# Altium schematic symbol library DC motors drivers.SchLib: 1 symbol
Pins are listed as number, name and electrical type; pins without a type are passive.

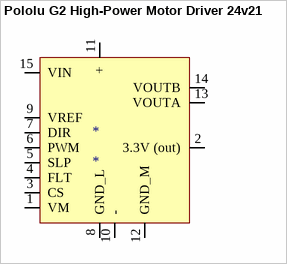
[diagram p0: symbol Pololu G2 High-Power Motor Driver 24v21]

## Pololu G2 High-Power Motor Driver 24v21
designator *
footprint Pololu G2 High-Power Motor Driver 24v21
pins: 1 VM, 2 3.3V (out), 3 CS, 4 FLT, 5 SLP, 6 PWM, 7 DIR, 8 GND_L, 9 VREF, 10 -, 11 +, 12 GND_M, 13 VOUTA, 14 VOUTB, 15 VIN